# Altium integrated library Linear Technology Power Management LED Driver ICs.IntLib: 490 symbols (part 20 of 48)
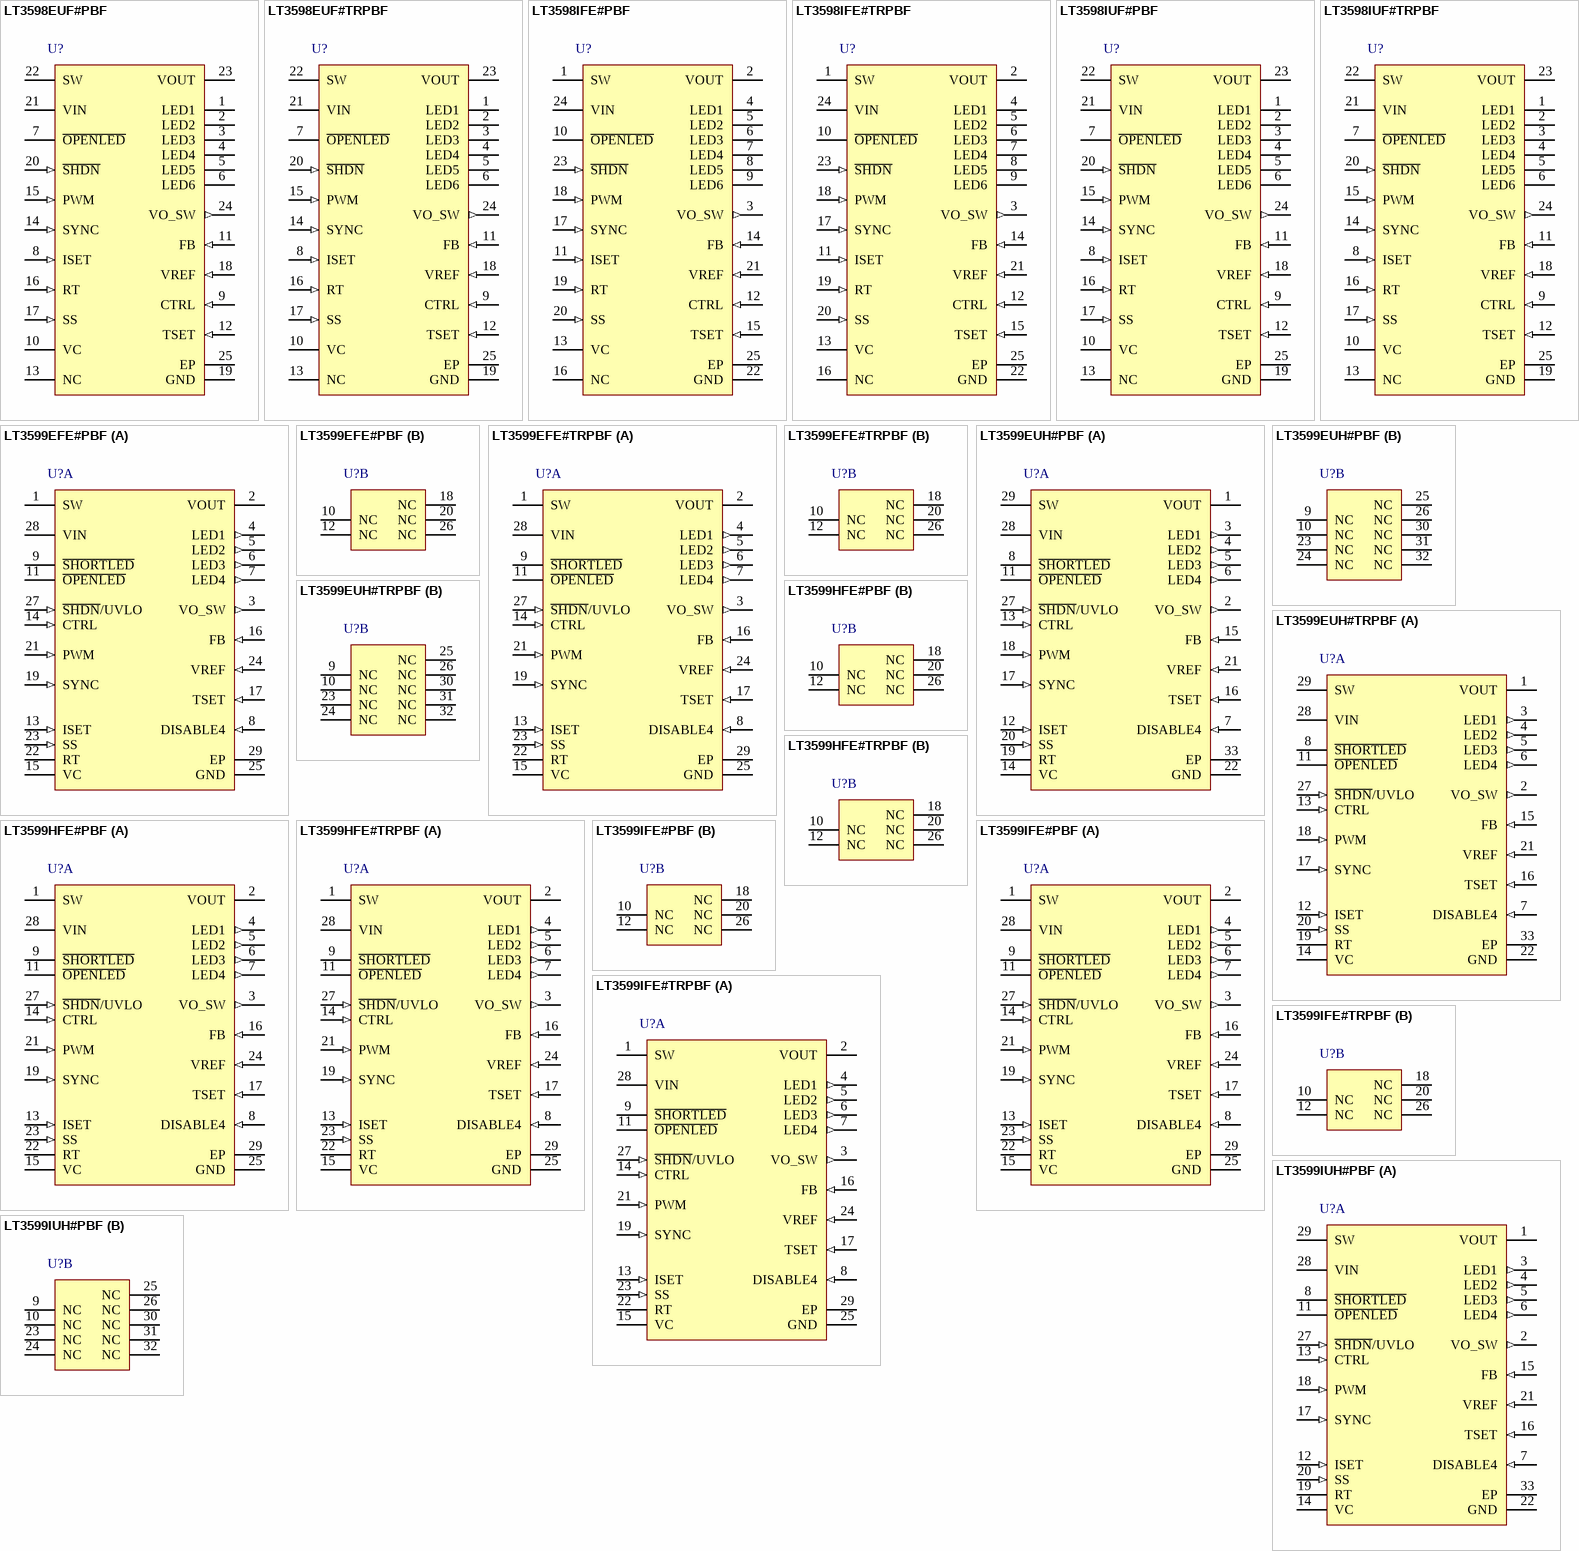
[diagram p39: symbols LT3598EUF#PBF to LT3599IUH#PBF]

## LT3599EUH#PBF
designator U?
4-Channel 100 mA LED Driver with 2% Current Matching, 3 to 30 V Vin, 44 V Vout MAX, 32-pin QFN (UH-32), -40 to 125 degC, Pb-Free; Manufacturer: Linear Technology; PartNumber: LT3599EUH#PBF; Topology: Boost, Sepic, LED Driver; Vin Min(V): 3; DatasheetVersion: Rev. E; PackageVersion: Rev. D, 06/2010; PackageReference: UH-32; PackageDescription: 32-Pin Plastic QFN, Body 5 x 5 mm, Pitch 0.5 mm; Supplier 1: Digi-Key; Supplier Part Number 1: LT3599EUH#PBF-ND; Supplier 2: Farnell; Supplier Part Number 2: 2294854; Supplier 3: Newark; Supplier Part Number 3: 51P4635; RoHS: TRUE; Mounting Technology: Surface Mount; Code_JEDEC: MO-220; ComponentLink1Description: Manufacturer URL; ComponentLink1URL: http://www.linear.com/; ComponentLink2Description: Datasheet; ComponentLink2URL: http://cds.linear.com/docs/en/datasheet/3599fe.pdf; ComponentLink3Description: Package Specification; ComponentLink3URL: http://cds.linear.com/docs/en/packaging/QFN_32_05-08-1693.pdf
footprint LT-UH-32_N (QFN, 32-Leads, Body 5.1x5.1mm, Pitch 0.5mm, Thermal Pad 3.45X3.45mm, IPC Medium Density)
footprint LT-UH-32_L (QFN, 32-Leads, Body 5.1x5.1mm, Pitch 0.5mm, Thermal Pad 3.45X3.45mm, IPC High Density)
footprint LT-UH-32_M (QFN, 32-Leads, Body 5.1x5.1mm, Pitch 0.5mm, Thermal Pad 3.45X3.45mm, IPC Low Density)
part A pins: 1 VOUT (power) "Output Pin. This pin provides power to all LEDs.", 2 VO_SW (out) "Drain of an Internal PMOS. The internal PMOS disconnects the feedback resistors from the V OUT pin during shutdown and when the PWM pin is low.", 3 LED1 (out) "LED String Output. Connect the bottom cathode of LED string to this pin.", 4 LED2 (out) "LED String Output. Connect the bottom cathode of LED string to this pin.", 5 LED3 (out) "LED String Output. Connect the bottom cathode of LED string to this pin.", 6 LED4 (out) "LED String Output. Connect the bottom cathode of LED string to this pin.", 7 DISABLE4 (in) "Allows Disabling Channel 4. Connect to V REF to disable channel 4. If channel 4 is disabled, the LED4 pin should be connected to the LED3 pin. Connect DISABLE4 to ground to allow operation of channel 4.", 8 ~{SHORTLED} (oc) "Indicates a high side short (LED pin shorted to V OUT ). This is an open-collector output.", 11 ~{OPENLED} (oc) "Open LED Flag. An open-collector output when any LED string open.", 12 ISET (in) "Programs Led Current for Each String. A resistor to ground programs LED currents between 30 mA and 120 mA.", 13 CTRL (in) "LED Current Control. If the CTRL pin is not used, tie this pin to V REF .", 14 VC "Error Amplifi er Output Pin. Tie the external compensation network to this pin.", 15 FB (in) "Feedback Pin for Overvoltage Protection. Reference voltage is 1.223 V. Connect the resistive divider tap here. Minimize trace area at FB. Set VOUT according to VOUT = 1.223(1 + R2/R1) when overvoltage protection occurs.", 16 TSET (in) "Programs LT3599 junction temperature breakpoint, beyond which LED currents will begin to decrease. An internal VPTAT threshold (see Block Diagram) increases with junction temperature. When VPTAT exceeds TSET pin voltage, LED (See Datasheet)", 17 SYNC (in) "Frequency Synchronization Pin. This input allows for synchronizing the operating frequency to an external clock. The R T resistor should be chosen to program a switching frequency 20% slower than SYNC pulse frequency. This (See Datasheet)", 18 PWM (in) "Input Pin for PWM Dimming Control. Above 1 V allows converter switching, and below 0.4 V disables switching with VC pin level maintained. A PWM signal driving the PWM pin provides accurate dimming control. The PWM signal can (See Datasheet)", 19 RT "A Resistor to Ground Which Programs Switching Frequency Between 200 kHz and 2.1 MHz. For SYNC function, choose the resistor to program a frequency 20% slower than the SYNC pulse frequency. Do not leave this pin open.", 20 SS (in) "Soft-Start Pin. Place a soft-start capacitor here. Upon start-up, a 11 uA current charges the capacitor. Use a larger capacitor for a slower start-up.", 21 VREF (in) "Bandgap Voltage Reference. Internally set to 1.227 V. This pin can supply up to 100 uA. Can be used to program the CTRL pin voltage using resistor dividers to ground.", 22 GND (power) "Analog Ground. Tie directly to local ground plane. Connect RT, ISET and TSET resistors between this local ground plane and their respective pins.", 27 ~{SHDN}/UVLO (in) "The S\H\D\N\/UVLO pin has an accurate 1.36 V threshold and can be used to program an undervoltage lockout (UVLO) threshold for system input supply using a resistor divider from supply to ground. A 4 uA pin current hysteresis (See Datasheet)", 28 VIN (power) "Input Supply Pin. Must be locally bypassed with a capacitor to ground.", 29 SW (power) "Switch Pin. This is the collector of the internal NPN power switch. Minimize the metal trace area connected to this pin to minimize EMI.", 33 EP (power) "Ground. The ground for the IC should be soldered to a continuous copper ground plane under the LT3599 die."
part B pins: 9 NC "No Connect Pin. Can be left open or connected to any ground plane.", 10 NC "No Connect Pin. Can be left open or connected to any ground plane.", 23 NC "No Connect Pin. Can be left open or connected to any ground plane.", 24 NC "No Connect Pin. Can be left open or connected to any ground plane.", 25 NC "No Connect Pin. Can be left open or connected to any ground plane.", 26 NC "No Connect Pin. Can be left open or connected to any ground plane.", 30 NC "No Connect Pin. Can be left open or connected to any ground plane.", 31 NC "No Connect Pin. Can be left open or connected to any ground plane.", 32 NC "No Connect Pin. Can be left open or connected to any ground plane."

## LT3599EUH#TRPBF
designator U?
4-Channel 100 mA LED Driver with 2% Current Matching, 3 to 30 V Vin, 44 V Vout MAX, 32-pin QFN (UH-32), -40 to 125 degC, Pb-Free, Tape and Reel; Manufacturer: Linear Technology; PartNumber: LT3599EUH#TRPBF; Topology: Boost, Sepic, LED Driver; Vin Min(V): 3; DatasheetVersion: Rev. E; PackageVersion: Rev. D, 06/2010; PackageReference: UH-32; PackageDescription: 32-Pin Plastic QFN, Body 5 x 5 mm, Pitch 0.5 mm; Supplier 1: Digi-Key; Supplier Part Number 1: LT3599EUH#TRPBF-ND; Packing: Tape and Reel; RoHS: TRUE; Mounting Technology: Surface Mount; Code_JEDEC: MO-220; ComponentLink1Description: Manufacturer URL; ComponentLink1URL: http://www.linear.com/; ComponentLink2Description: Datasheet; ComponentLink2URL: http://cds.linear.com/docs/en/datasheet/3599fe.pdf; ComponentLink3Description: Package Specification; ComponentLink3URL: http://cds.linear.com/docs/en/packaging/QFN_32_05-08-1693.pdf
footprint LT-UH-32_N (QFN, 32-Leads, Body 5.1x5.1mm, Pitch 0.5mm, Thermal Pad 3.45X3.45mm, IPC Medium Density)
footprint LT-UH-32_L (QFN, 32-Leads, Body 5.1x5.1mm, Pitch 0.5mm, Thermal Pad 3.45X3.45mm, IPC High Density)
footprint LT-UH-32_M (QFN, 32-Leads, Body 5.1x5.1mm, Pitch 0.5mm, Thermal Pad 3.45X3.45mm, IPC Low Density)
part A pins: 1 VOUT (power) "Output Pin. This pin provides power to all LEDs.", 2 VO_SW (out) "Drain of an Internal PMOS. The internal PMOS disconnects the feedback resistors from the V OUT pin during shutdown and when the PWM pin is low.", 3 LED1 (out) "LED String Output. Connect the bottom cathode of LED string to this pin.", 4 LED2 (out) "LED String Output. Connect the bottom cathode of LED string to this pin.", 5 LED3 (out) "LED String Output. Connect the bottom cathode of LED string to this pin.", 6 LED4 (out) "LED String Output. Connect the bottom cathode of LED string to this pin.", 7 DISABLE4 (in) "Allows Disabling Channel 4. Connect to V REF to disable channel 4. If channel 4 is disabled, the LED4 pin should be connected to the LED3 pin. Connect DISABLE4 to ground to allow operation of channel 4.", 8 ~{SHORTLED} (oc) "Indicates a high side short (LED pin shorted to V OUT ). This is an open-collector output.", 11 ~{OPENLED} (oc) "Open LED Flag. An open-collector output when any LED string open.", 12 ISET (in) "Programs Led Current for Each String. A resistor to ground programs LED currents between 30 mA and 120 mA.", 13 CTRL (in) "LED Current Control. If the CTRL pin is not used, tie this pin to V REF .", 14 VC "Error Amplifi er Output Pin. Tie the external compensation network to this pin.", 15 FB (in) "Feedback Pin for Overvoltage Protection. Reference voltage is 1.223 V. Connect the resistive divider tap here. Minimize trace area at FB. Set VOUT according to VOUT = 1.223(1 + R2/R1) when overvoltage protection occurs.", 16 TSET (in) "Programs LT3599 junction temperature breakpoint, beyond which LED currents will begin to decrease. An internal VPTAT threshold (see Block Diagram) increases with junction temperature. When VPTAT exceeds TSET pin voltage, LED (See Datasheet)", 17 SYNC (in) "Frequency Synchronization Pin. This input allows for synchronizing the operating frequency to an external clock. The R T resistor should be chosen to program a switching frequency 20% slower than SYNC pulse frequency. This (See Datasheet)", 18 PWM (in) "Input Pin for PWM Dimming Control. Above 1 V allows converter switching, and below 0.4 V disables switching with VC pin level maintained. A PWM signal driving the PWM pin provides accurate dimming control. The PWM signal can (See Datasheet)", 19 RT "A Resistor to Ground Which Programs Switching Frequency Between 200 kHz and 2.1 MHz. For SYNC function, choose the resistor to program a frequency 20% slower than the SYNC pulse frequency. Do not leave this pin open.", 20 SS (in) "Soft-Start Pin. Place a soft-start capacitor here. Upon start-up, a 11 uA current charges the capacitor. Use a larger capacitor for a slower start-up.", 21 VREF (in) "Bandgap Voltage Reference. Internally set to 1.227 V. This pin can supply up to 100 uA. Can be used to program the CTRL pin voltage using resistor dividers to ground.", 22 GND (power) "Analog Ground. Tie directly to local ground plane. Connect RT, ISET and TSET resistors between this local ground plane and their respective pins.", 27 ~{SHDN}/UVLO (in) "The S\H\D\N\/UVLO pin has an accurate 1.36 V threshold and can be used to program an undervoltage lockout (UVLO) threshold for system input supply using a resistor divider from supply to ground. A 4 uA pin current hysteresis (See Datasheet)", 28 VIN (power) "Input Supply Pin. Must be locally bypassed with a capacitor to ground.", 29 SW (power) "Switch Pin. This is the collector of the internal NPN power switch. Minimize the metal trace area connected to this pin to minimize EMI.", 33 EP (power) "Ground. The ground for the IC should be soldered to a continuous copper ground plane under the LT3599 die."
part B pins: 9 NC "No Connect Pin. Can be left open or connected to any ground plane.", 10 NC "No Connect Pin. Can be left open or connected to any ground plane.", 23 NC "No Connect Pin. Can be left open or connected to any ground plane.", 24 NC "No Connect Pin. Can be left open or connected to any ground plane.", 25 NC "No Connect Pin. Can be left open or connected to any ground plane.", 26 NC "No Connect Pin. Can be left open or connected to any ground plane.", 30 NC "No Connect Pin. Can be left open or connected to any ground plane.", 31 NC "No Connect Pin. Can be left open or connected to any ground plane.", 32 NC "No Connect Pin. Can be left open or connected to any ground plane."

## LT3599HFE#PBF
designator U?
4-Channel 100 mA LED Driver with 2% Current Matching, 3 to 30 V Vin, 44 V Vout MAX, 28-pin SOP (FE-28-EPV-EB), -40 to 150 degC, Pb-Free; Manufacturer: Linear Technology; PartNumber: LT3599HFE#PBF; Topology: Boost, Sepic, LED Driver; Vin Min(V): 3; DatasheetVersion: Rev. E; PackageVersion: Rev. J, 11/2012; PackageReference: FE-28; PackageDescription: 28-Pin Plastic TSSOP, Body 9.7 x 4.4 mm, Pitch 0.65 mm; Supplier 1: Digi-Key; Supplier Part Number 1: LT3599HFE#PBF-ND; Supplier 2: Newark; Supplier Part Number 2: 64R6827; RoHS: TRUE; Mounting Technology: Surface Mount; ComponentLink1Description: Manufacturer URL; ComponentLink1URL: http://www.linear.com/; ComponentLink2Description: Datasheet; ComponentLink2URL: http://cds.linear.com/docs/en/datasheet/3599fe.pdf; ComponentLink3Description: Package Specification; ComponentLink3URL: http://cds.linear.com/docs/en/packaging/05081663__J_FE28(EB).pdf
footprint LT-FE-28-EPV-EB_N (SOP, 28-Leads, Body 9.8x4.5mm, Pitch 0.65mm, Thermal Pad 4.75x2.74mm, IPC Medium Density)
footprint LT-FE-28-EPV-EB_L (SOP, 28-Leads, Body 9.8x4.5mm, Pitch 0.65mm, Thermal Pad 4.75x2.74mm, IPC High Density)
footprint LT-FE-28-EPV-EB_M (SOP, 28-Leads, Body 9.8x4.5mm, Pitch 0.65mm, Thermal Pad 4.75x2.74mm, IPC Low Density)
part A pins: 1 SW (power) "Switch Pin. This is the collector of the internal NPN power switch. Minimize the metal trace area connected to this pin to minimize EMI.", 2 VOUT (power) "Output Pin. This pin provides power to all LEDs.", 3 VO_SW (out) "Drain of an Internal PMOS. The internal PMOS disconnects the feedback resistors from the VOUT pin during shutdown and when the PWM pin is low.", 4 LED1 (out) "LED String Output. Connect the bottom cathode of each LED string to these pins.", 5 LED2 (out) "LED String Output. Connect the bottom cathode of each LED string to these pins.", 6 LED3 (out) "LED String Output. Connect the bottom cathode of each LED string to these pins.", 7 LED4 (out) "LED String Output. Connect the bottom cathode of each LED string to these pins.", 8 DISABLE4 (in) "Allows Disabling Channel 4. Connect to VREF to disable channel 4. If channel 4 is disabled, the LED4 pin should be connected to the LED3 pin. Connect DISABLE4 to ground to allow operation of channel 4.", 9 ~{SHORTLED} (oc) "Indicates a high side short (LED pin shorted to VOUT). This is an open-collector output.", 11 ~{OPENLED} (oc) "Open LED Flag. An open-collector output when any LED string opens.", 13 ISET (in) "Programs Led Current for Each String. A resistor to ground programs LED currents between 30mA and 120mA.", 14 CTRL (in) "LED Current Control. If the CTRL pin is not used, tie this pin to VREF.", 15 VC "Error Amplifier Output Pin. Tie the external compensation network to this pin.", 16 FB (in) "Feedback Pin for Overvoltage Protection. Reference voltage is 1.223V. Connect the resistive divider tap here. Minimize trace area at FB. Set VOUT according to VOUT = 1.223(1 + R2/R1) when overvoltage protection occurs.", 17 TSET (in) "Programs LT3599 junction temperature breakpoint, beyond which LED currents will begin to decrease. An internal VPTAT threshold (see Block Diagram) increases with junction temperature. When VPTAT exceeds TSET pin voltage, LED (See Datasheet)", 19 SYNC (in) "Frequency Synchronization Pin. This input allows for synchronizing the operating frequency to an external clock. The RT resistor should be chosen to program a switching frequency 20% slower than SYNC pulse frequency. This (See Datasheet)", 21 PWM (in) "Input Pin for PWM Dimming Control. Above 1V allows converter switching, and below 0.4V disables switching with VC pin level maintained. A PWM signal driving the PWM pin provides accurate dimming control. The PWM signal can (See Datasheet)", 22 RT "A Resistor to Ground Which Programs Switching Frequency Between 200kHz and 2.1MHz. For SYNC function, choose the resistor to program a frequency 20% slower than the SYNC pulse frequency. Do not leave this pin open.", 23 SS (in) "Soft-Start Pin. Place a soft-start capacitor here. Upon start-up, a 11uA current charges the capacitor. Use a larger capacitor for a slower start-up.", 24 VREF (in) "Bandgap Voltage Reference. Internally set to 1.227V. This pin can supply up to 100uA. Can be used to program the CTRL pin voltage using resistor dividers to ground.", 25 GND (power) "Analog Ground. Tie directly to local ground plane. Connect RT, ISET and TSET resistors between this local ground plane and their respective pins.", 27 ~{SHDN}/UVLO (in) "The S\H\D\N\/UVLO pin has an accurate 1.36V threshold and can be used to program an undervoltage lockout (UVLO) threshold for system input supply using a resistor divider from supply to ground. A 4uA pin current hysteresis (See Datasheet)", 28 VIN (power) "Input Supply Pin. Must be locally bypassed with a capacitor to ground.", 29 EP (power) "Ground. The ground for the IC should be soldered to a continuous copper ground plane under the LT3599 die."
part B pins: 10 NC "No Connect Pins. Can be left open or connected to any ground plane.", 12 NC "No Connect Pins. Can be left open or connected to any ground plane.", 18 NC "No Connect Pins. Can be left open or connected to any ground plane.", 20 NC "No Connect Pins. Can be left open or connected to any ground plane.", 26 NC "No Connect Pins. Can be left open or connected to any ground plane."

## LT3599HFE#TRPBF
designator U?
4-Channel 100 mA LED Driver with 2% Current Matching, 3 to 30 V Vin, 44 V Vout MAX, 28-pin SOP (FE-28-EPV-EB), -40 to 150 degC, Pb-Free, Tape and Reel; Manufacturer: Linear Technology; PartNumber: LT3599HFE#TRPBF; Topology: Boost, Sepic, LED Driver; Vin Min(V): 3; DatasheetVersion: Rev. E; PackageVersion: Rev. J, 11/2012; PackageReference: FE-28; PackageDescription: 28-Pin Plastic TSSOP, Body 9.7 x 4.4 mm, Pitch 0.65 mm; Supplier 1: Digi-Key; Supplier Part Number 1: LT3599HFE#TRPBF-ND; Packing: Tape and Reel; RoHS: TRUE; Mounting Technology: Surface Mount; ComponentLink1Description: Manufacturer URL; ComponentLink1URL: http://www.linear.com/; ComponentLink2Description: Datasheet; ComponentLink2URL: http://cds.linear.com/docs/en/datasheet/3599fe.pdf; ComponentLink3Description: Package Specification; ComponentLink3URL: http://cds.linear.com/docs/en/packaging/05081663__J_FE28(EB).pdf
footprint LT-FE-28-EPV-EB_N (SOP, 28-Leads, Body 9.8x4.5mm, Pitch 0.65mm, Thermal Pad 4.75x2.74mm, IPC Medium Density)
footprint LT-FE-28-EPV-EB_L (SOP, 28-Leads, Body 9.8x4.5mm, Pitch 0.65mm, Thermal Pad 4.75x2.74mm, IPC High Density)
footprint LT-FE-28-EPV-EB_M (SOP, 28-Leads, Body 9.8x4.5mm, Pitch 0.65mm, Thermal Pad 4.75x2.74mm, IPC Low Density)
part A pins: 1 SW (power) "Switch Pin. This is the collector of the internal NPN power switch. Minimize the metal trace area connected to this pin to minimize EMI.", 2 VOUT (power) "Output Pin. This pin provides power to all LEDs.", 3 VO_SW (out) "Drain of an Internal PMOS. The internal PMOS disconnects the feedback resistors from the VOUT pin during shutdown and when the PWM pin is low.", 4 LED1 (out) "LED String Output. Connect the bottom cathode of each LED string to these pins.", 5 LED2 (out) "LED String Output. Connect the bottom cathode of each LED string to these pins.", 6 LED3 (out) "LED String Output. Connect the bottom cathode of each LED string to these pins.", 7 LED4 (out) "LED String Output. Connect the bottom cathode of each LED string to these pins.", 8 DISABLE4 (in) "Allows Disabling Channel 4. Connect to VREF to disable channel 4. If channel 4 is disabled, the LED4 pin should be connected to the LED3 pin. Connect DISABLE4 to ground to allow operation of channel 4.", 9 ~{SHORTLED} (oc) "Indicates a high side short (LED pin shorted to VOUT). This is an open-collector output.", 11 ~{OPENLED} (oc) "Open LED Flag. An open-collector output when any LED string opens.", 13 ISET (in) "Programs Led Current for Each String. A resistor to ground programs LED currents between 30mA and 120mA.", 14 CTRL (in) "LED Current Control. If the CTRL pin is not used, tie this pin to VREF.", 15 VC "Error Amplifier Output Pin. Tie the external compensation network to this pin.", 16 FB (in) "Feedback Pin for Overvoltage Protection. Reference voltage is 1.223V. Connect the resistive divider tap here. Minimize trace area at FB. Set VOUT according to VOUT = 1.223(1 + R2/R1) when overvoltage protection occurs.", 17 TSET (in) "Programs LT3599 junction temperature breakpoint, beyond which LED currents will begin to decrease. An internal VPTAT threshold (see Block Diagram) increases with junction temperature. When VPTAT exceeds TSET pin voltage, LED (See Datasheet)", 19 SYNC (in) "Frequency Synchronization Pin. This input allows for synchronizing the operating frequency to an external clock. The RT resistor should be chosen to program a switching frequency 20% slower than SYNC pulse frequency. This (See Datasheet)", 21 PWM (in) "Input Pin for PWM Dimming Control. Above 1V allows converter switching, and below 0.4V disables switching with VC pin level maintained. A PWM signal driving the PWM pin provides accurate dimming control. The PWM signal can (See Datasheet)", 22 RT "A Resistor to Ground Which Programs Switching Frequency Between 200kHz and 2.1MHz. For SYNC function, choose the resistor to program a frequency 20% slower than the SYNC pulse frequency. Do not leave this pin open.", 23 SS (in) "Soft-Start Pin. Place a soft-start capacitor here. Upon start-up, a 11uA current charges the capacitor. Use a larger capacitor for a slower start-up.", 24 VREF (in) "Bandgap Voltage Reference. Internally set to 1.227V. This pin can supply up to 100uA. Can be used to program the CTRL pin voltage using resistor dividers to ground.", 25 GND (power) "Analog Ground. Tie directly to local ground plane. Connect RT, ISET and TSET resistors between this local ground plane and their respective pins.", 27 ~{SHDN}/UVLO (in) "The S\H\D\N\/UVLO pin has an accurate 1.36V threshold and can be used to program an undervoltage lockout (UVLO) threshold for system input supply using a resistor divider from supply to ground. A 4uA pin current hysteresis (See Datasheet)", 28 VIN (power) "Input Supply Pin. Must be locally bypassed with a capacitor to ground.", 29 EP (power) "Ground. The ground for the IC should be soldered to a continuous copper ground plane under the LT3599 die."
part B pins: 10 NC "No Connect Pins. Can be left open or connected to any ground plane.", 12 NC "No Connect Pins. Can be left open or connected to any ground plane.", 18 NC "No Connect Pins. Can be left open or connected to any ground plane.", 20 NC "No Connect Pins. Can be left open or connected to any ground plane.", 26 NC "No Connect Pins. Can be left open or connected to any ground plane."

## LT3599IFE#PBF
designator U?
4-Channel 100 mA LED Driver with 2% Current Matching, 3 to 30 V Vin, 44 V Vout MAX, 28-pin SOP (FE-28-EPV-EB), -40 to 125 degC, Pb-Free; Manufacturer: Linear Technology; PartNumber: LT3599IFE#PBF; Topology: Boost, Sepic, LED Driver; Vin Min(V): 3; DatasheetVersion: Rev. E; PackageVersion: Rev. J, 11/2012; PackageReference: FE-28; PackageDescription: 28-Pin Plastic TSSOP, Body 9.7 x 4.4 mm, Pitch 0.65 mm; Supplier 1: Digi-Key; Supplier Part Number 1: LT3599IFE#PBF-ND; Supplier 2: Newark; Supplier Part Number 2: 51P4637; RoHS: TRUE; Mounting Technology: Surface Mount; ComponentLink1Description: Manufacturer URL; ComponentLink1URL: http://www.linear.com/; ComponentLink2Description: Datasheet; ComponentLink2URL: http://cds.linear.com/docs/en/datasheet/3599fe.pdf; ComponentLink3Description: Package Specification; ComponentLink3URL: http://cds.linear.com/docs/en/packaging/05081663__J_FE28(EB).pdf
footprint LT-FE-28-EPV-EB_N (SOP, 28-Leads, Body 9.8x4.5mm, Pitch 0.65mm, Thermal Pad 4.75x2.74mm, IPC Medium Density)
footprint LT-FE-28-EPV-EB_L (SOP, 28-Leads, Body 9.8x4.5mm, Pitch 0.65mm, Thermal Pad 4.75x2.74mm, IPC High Density)
footprint LT-FE-28-EPV-EB_M (SOP, 28-Leads, Body 9.8x4.5mm, Pitch 0.65mm, Thermal Pad 4.75x2.74mm, IPC Low Density)
part A pins: 1 SW (power) "Switch Pin. This is the collector of the internal NPN power switch. Minimize the metal trace area connected to this pin to minimize EMI.", 2 VOUT (power) "Output Pin. This pin provides power to all LEDs.", 3 VO_SW (out) "Drain of an Internal PMOS. The internal PMOS disconnects the feedback resistors from the VOUT pin during shutdown and when the PWM pin is low.", 4 LED1 (out) "LED String Output. Connect the bottom cathode of each LED string to these pins.", 5 LED2 (out) "LED String Output. Connect the bottom cathode of each LED string to these pins.", 6 LED3 (out) "LED String Output. Connect the bottom cathode of each LED string to these pins.", 7 LED4 (out) "LED String Output. Connect the bottom cathode of each LED string to these pins.", 8 DISABLE4 (in) "Allows Disabling Channel 4. Connect to VREF to disable channel 4. If channel 4 is disabled, the LED4 pin should be connected to the LED3 pin. Connect DISABLE4 to ground to allow operation of channel 4.", 9 ~{SHORTLED} (oc) "Indicates a high side short (LED pin shorted to VOUT). This is an open-collector output.", 11 ~{OPENLED} (oc) "Open LED Flag. An open-collector output when any LED string opens.", 13 ISET (in) "Programs Led Current for Each String. A resistor to ground programs LED currents between 30mA and 120mA.", 14 CTRL (in) "LED Current Control. If the CTRL pin is not used, tie this pin to VREF.", 15 VC "Error Amplifier Output Pin. Tie the external compensation network to this pin.", 16 FB (in) "Feedback Pin for Overvoltage Protection. Reference voltage is 1.223V. Connect the resistive divider tap here. Minimize trace area at FB. Set VOUT according to VOUT = 1.223(1 + R2/R1) when overvoltage protection occurs.", 17 TSET (in) "Programs LT3599 junction temperature breakpoint, beyond which LED currents will begin to decrease. An internal VPTAT threshold (see Block Diagram) increases with junction temperature. When VPTAT exceeds TSET pin voltage, LED (See Datasheet)", 19 SYNC (in) "Frequency Synchronization Pin. This input allows for synchronizing the operating frequency to an external clock. The RT resistor should be chosen to program a switching frequency 20% slower than SYNC pulse frequency. This (See Datasheet)", 21 PWM (in) "Input Pin for PWM Dimming Control. Above 1V allows converter switching, and below 0.4V disables switching with VC pin level maintained. A PWM signal driving the PWM pin provides accurate dimming control. The PWM signal can (See Datasheet)", 22 RT "A Resistor to Ground Which Programs Switching Frequency Between 200kHz and 2.1MHz. For SYNC function, choose the resistor to program a frequency 20% slower than the SYNC pulse frequency. Do not leave this pin open.", 23 SS (in) "Soft-Start Pin. Place a soft-start capacitor here. Upon start-up, a 11uA current charges the capacitor. Use a larger capacitor for a slower start-up.", 24 VREF (in) "Bandgap Voltage Reference. Internally set to 1.227V. This pin can supply up to 100uA. Can be used to program the CTRL pin voltage using resistor dividers to ground.", 25 GND (power) "Analog Ground. Tie directly to local ground plane. Connect RT, ISET and TSET resistors between this local ground plane and their respective pins.", 27 ~{SHDN}/UVLO (in) "The S\H\D\N\/UVLO pin has an accurate 1.36V threshold and can be used to program an undervoltage lockout (UVLO) threshold for system input supply using a resistor divider from supply to ground. A 4uA pin current hysteresis (See Datasheet)", 28 VIN (power) "Input Supply Pin. Must be locally bypassed with a capacitor to ground.", 29 EP (power) "Ground. The ground for the IC should be soldered to a continuous copper ground plane under the LT3599 die."
part B pins: 10 NC "No Connect Pins. Can be left open or connected to any ground plane.", 12 NC "No Connect Pins. Can be left open or connected to any ground plane.", 18 NC "No Connect Pins. Can be left open or connected to any ground plane.", 20 NC "No Connect Pins. Can be left open or connected to any ground plane.", 26 NC "No Connect Pins. Can be left open or connected to any ground plane."

## LT3599IFE#TRPBF
designator U?
4-Channel 100 mA LED Driver with 2% Current Matching, 3 to 30 V Vin, 44 V Vout MAX, 28-pin SOP (FE-28-EPV-EB), -40 to 125 degC, Pb-Free, Tape and Reel; Manufacturer: Linear Technology; PartNumber: LT3599IFE#TRPBF; Topology: Boost, Sepic, LED Driver; Vin Min(V): 3; DatasheetVersion: Rev. E; PackageVersion: Rev. J, 11/2012; PackageReference: FE-28; PackageDescription: 28-Pin Plastic TSSOP, Body 9.7 x 4.4 mm, Pitch 0.65 mm; Supplier 1: Digi-Key; Supplier Part Number 1: LT3599IFE#TRPBF-ND; Packing: Tape and Reel; RoHS: TRUE; Mounting Technology: Surface Mount; ComponentLink1Description: Manufacturer URL; ComponentLink1URL: http://www.linear.com/; ComponentLink2Description: Datasheet; ComponentLink2URL: http://cds.linear.com/docs/en/datasheet/3599fe.pdf; ComponentLink3Description: Package Specification; ComponentLink3URL: http://cds.linear.com/docs/en/packaging/05081663__J_FE28(EB).pdf
footprint LT-FE-28-EPV-EB_N (SOP, 28-Leads, Body 9.8x4.5mm, Pitch 0.65mm, Thermal Pad 4.75x2.74mm, IPC Medium Density)
footprint LT-FE-28-EPV-EB_L (SOP, 28-Leads, Body 9.8x4.5mm, Pitch 0.65mm, Thermal Pad 4.75x2.74mm, IPC High Density)
footprint LT-FE-28-EPV-EB_M (SOP, 28-Leads, Body 9.8x4.5mm, Pitch 0.65mm, Thermal Pad 4.75x2.74mm, IPC Low Density)
part A pins: 1 SW (power) "Switch Pin. This is the collector of the internal NPN power switch. Minimize the metal trace area connected to this pin to minimize EMI.", 2 VOUT (power) "Output Pin. This pin provides power to all LEDs.", 3 VO_SW (out) "Drain of an Internal PMOS. The internal PMOS disconnects the feedback resistors from the VOUT pin during shutdown and when the PWM pin is low.", 4 LED1 (out) "LED String Output. Connect the bottom cathode of each LED string to these pins.", 5 LED2 (out) "LED String Output. Connect the bottom cathode of each LED string to these pins.", 6 LED3 (out) "LED String Output. Connect the bottom cathode of each LED string to these pins.", 7 LED4 (out) "LED String Output. Connect the bottom cathode of each LED string to these pins.", 8 DISABLE4 (in) "Allows Disabling Channel 4. Connect to VREF to disable channel 4. If channel 4 is disabled, the LED4 pin should be connected to the LED3 pin. Connect DISABLE4 to ground to allow operation of channel 4.", 9 ~{SHORTLED} (oc) "Indicates a high side short (LED pin shorted to VOUT). This is an open-collector output.", 11 ~{OPENLED} (oc) "Open LED Flag. An open-collector output when any LED string opens.", 13 ISET (in) "Programs Led Current for Each String. A resistor to ground programs LED currents between 30mA and 120mA.", 14 CTRL (in) "LED Current Control. If the CTRL pin is not used, tie this pin to VREF.", 15 VC "Error Amplifier Output Pin. Tie the external compensation network to this pin.", 16 FB (in) "Feedback Pin for Overvoltage Protection. Reference voltage is 1.223V. Connect the resistive divider tap here. Minimize trace area at FB. Set VOUT according to VOUT = 1.223(1 + R2/R1) when overvoltage protection occurs.", 17 TSET (in) "Programs LT3599 junction temperature breakpoint, beyond which LED currents will begin to decrease. An internal VPTAT threshold (see Block Diagram) increases with junction temperature. When VPTAT exceeds TSET pin voltage, LED (See Datasheet)", 19 SYNC (in) "Frequency Synchronization Pin. This input allows for synchronizing the operating frequency to an external clock. The RT resistor should be chosen to program a switching frequency 20% slower than SYNC pulse frequency. This (See Datasheet)", 21 PWM (in) "Input Pin for PWM Dimming Control. Above 1V allows converter switching, and below 0.4V disables switching with VC pin level maintained. A PWM signal driving the PWM pin provides accurate dimming control. The PWM signal can (See Datasheet)", 22 RT "A Resistor to Ground Which Programs Switching Frequency Between 200kHz and 2.1MHz. For SYNC function, choose the resistor to program a frequency 20% slower than the SYNC pulse frequency. Do not leave this pin open.", 23 SS (in) "Soft-Start Pin. Place a soft-start capacitor here. Upon start-up, a 11uA current charges the capacitor. Use a larger capacitor for a slower start-up.", 24 VREF (in) "Bandgap Voltage Reference. Internally set to 1.227V. This pin can supply up to 100uA. Can be used to program the CTRL pin voltage using resistor dividers to ground.", 25 GND (power) "Analog Ground. Tie directly to local ground plane. Connect RT, ISET and TSET resistors between this local ground plane and their respective pins.", 27 ~{SHDN}/UVLO (in) "The S\H\D\N\/UVLO pin has an accurate 1.36V threshold and can be used to program an undervoltage lockout (UVLO) threshold for system input supply using a resistor divider from supply to ground. A 4uA pin current hysteresis (See Datasheet)", 28 VIN (power) "Input Supply Pin. Must be locally bypassed with a capacitor to ground.", 29 EP (power) "Ground. The ground for the IC should be soldered to a continuous copper ground plane under the LT3599 die."
part B pins: 10 NC "No Connect Pins. Can be left open or connected to any ground plane.", 12 NC "No Connect Pins. Can be left open or connected to any ground plane.", 18 NC "No Connect Pins. Can be left open or connected to any ground plane.", 20 NC "No Connect Pins. Can be left open or connected to any ground plane.", 26 NC "No Connect Pins. Can be left open or connected to any ground plane."

## LT3599IUH#PBF
designator U?
4-Channel 100 mA LED Driver with 2% Current Matching, 3 to 30 V Vin, 44 V Vout MAX, 32-pin QFN (UH-32), -40 to 125 degC, Pb-Free; Manufacturer: Linear Technology; PartNumber: LT3599IUH#PBF; Topology: Boost, Sepic, LED Driver; Vin Min(V): 3; DatasheetVersion: Rev. E; PackageVersion: Rev. D, 06/2010; PackageReference: UH-32; PackageDescription: 32-Pin Plastic QFN, Body 5 x 5 mm, Pitch 0.5 mm; Supplier 1: Digi-Key; Supplier Part Number 1: LT3599IUH#PBF-ND; Supplier 2: Farnell; Supplier Part Number 2: 2294855; Supplier 3: Newark; Supplier Part Number 3: 71P8124; RoHS: TRUE; Mounting Technology: Surface Mount; Code_JEDEC: MO-220; ComponentLink1Description: Manufacturer URL; ComponentLink1URL: http://www.linear.com/; ComponentLink2Description: Datasheet; ComponentLink2URL: http://cds.linear.com/docs/en/datasheet/3599fe.pdf; ComponentLink3Description: Package Specification; ComponentLink3URL: http://cds.linear.com/docs/en/packaging/QFN_32_05-08-1693.pdf
footprint LT-UH-32_N (QFN, 32-Leads, Body 5.1x5.1mm, Pitch 0.5mm, Thermal Pad 3.45X3.45mm, IPC Medium Density)
footprint LT-UH-32_L (QFN, 32-Leads, Body 5.1x5.1mm, Pitch 0.5mm, Thermal Pad 3.45X3.45mm, IPC High Density)
footprint LT-UH-32_M (QFN, 32-Leads, Body 5.1x5.1mm, Pitch 0.5mm, Thermal Pad 3.45X3.45mm, IPC Low Density)
part A pins: 1 VOUT (power) "Output Pin. This pin provides power to all LEDs.", 2 VO_SW (out) "Drain of an Internal PMOS. The internal PMOS disconnects the feedback resistors from the V OUT pin during shutdown and when the PWM pin is low.", 3 LED1 (out) "LED String Output. Connect the bottom cathode of LED string to this pin.", 4 LED2 (out) "LED String Output. Connect the bottom cathode of LED string to this pin.", 5 LED3 (out) "LED String Output. Connect the bottom cathode of LED string to this pin.", 6 LED4 (out) "LED String Output. Connect the bottom cathode of LED string to this pin.", 7 DISABLE4 (in) "Allows Disabling Channel 4. Connect to V REF to disable channel 4. If channel 4 is disabled, the LED4 pin should be connected to the LED3 pin. Connect DISABLE4 to ground to allow operation of channel 4.", 8 ~{SHORTLED} (oc) "Indicates a high side short (LED pin shorted to V OUT ). This is an open-collector output.", 11 ~{OPENLED} (oc) "Open LED Flag. An open-collector output when any LED string open.", 12 ISET (in) "Programs Led Current for Each String. A resistor to ground programs LED currents between 30 mA and 120 mA.", 13 CTRL (in) "LED Current Control. If the CTRL pin is not used, tie this pin to V REF .", 14 VC "Error Amplifi er Output Pin. Tie the external compensation network to this pin.", 15 FB (in) "Feedback Pin for Overvoltage Protection. Reference voltage is 1.223 V. Connect the resistive divider tap here. Minimize trace area at FB. Set VOUT according to VOUT = 1.223(1 + R2/R1) when overvoltage protection occurs.", 16 TSET (in) "Programs LT3599 junction temperature breakpoint, beyond which LED currents will begin to decrease. An internal VPTAT threshold (see Block Diagram) increases with junction temperature. When VPTAT exceeds TSET pin voltage, LED (See Datasheet)", 17 SYNC (in) "Frequency Synchronization Pin. This input allows for synchronizing the operating frequency to an external clock. The R T resistor should be chosen to program a switching frequency 20% slower than SYNC pulse frequency. This (See Datasheet)", 18 PWM (in) "Input Pin for PWM Dimming Control. Above 1 V allows converter switching, and below 0.4 V disables switching with VC pin level maintained. A PWM signal driving the PWM pin provides accurate dimming control. The PWM signal can (See Datasheet)", 19 RT "A Resistor to Ground Which Programs Switching Frequency Between 200 kHz and 2.1 MHz. For SYNC function, choose the resistor to program a frequency 20% slower than the SYNC pulse frequency. Do not leave this pin open.", 20 SS (in) "Soft-Start Pin. Place a soft-start capacitor here. Upon start-up, a 11 uA current charges the capacitor. Use a larger capacitor for a slower start-up.", 21 VREF (in) "Bandgap Voltage Reference. Internally set to 1.227 V. This pin can supply up to 100 uA. Can be used to program the CTRL pin voltage using resistor dividers to ground.", 22 GND (power) "Analog Ground. Tie directly to local ground plane. Connect RT, ISET and TSET resistors between this local ground plane and their respective pins.", 27 ~{SHDN}/UVLO (in) "The S\H\D\N\/UVLO pin has an accurate 1.36 V threshold and can be used to program an undervoltage lockout (UVLO) threshold for system input supply using a resistor divider from supply to ground. A 4 uA pin current hysteresis (See Datasheet)", 28 VIN (power) "Input Supply Pin. Must be locally bypassed with a capacitor to ground.", 29 SW (power) "Switch Pin. This is the collector of the internal NPN power switch. Minimize the metal trace area connected to this pin to minimize EMI.", 33 EP (power) "Ground. The ground for the IC should be soldered to a continuous copper ground plane under the LT3599 die."
part B pins: 9 NC "No Connect Pin. Can be left open or connected to any ground plane.", 10 NC "No Connect Pin. Can be left open or connected to any ground plane.", 23 NC "No Connect Pin. Can be left open or connected to any ground plane.", 24 NC "No Connect Pin. Can be left open or connected to any ground plane.", 25 NC "No Connect Pin. Can be left open or connected to any ground plane.", 26 NC "No Connect Pin. Can be left open or connected to any ground plane.", 30 NC "No Connect Pin. Can be left open or connected to any ground plane.", 31 NC "No Connect Pin. Can be left open or connected to any ground plane.", 32 NC "No Connect Pin. Can be left open or connected to any ground plane."

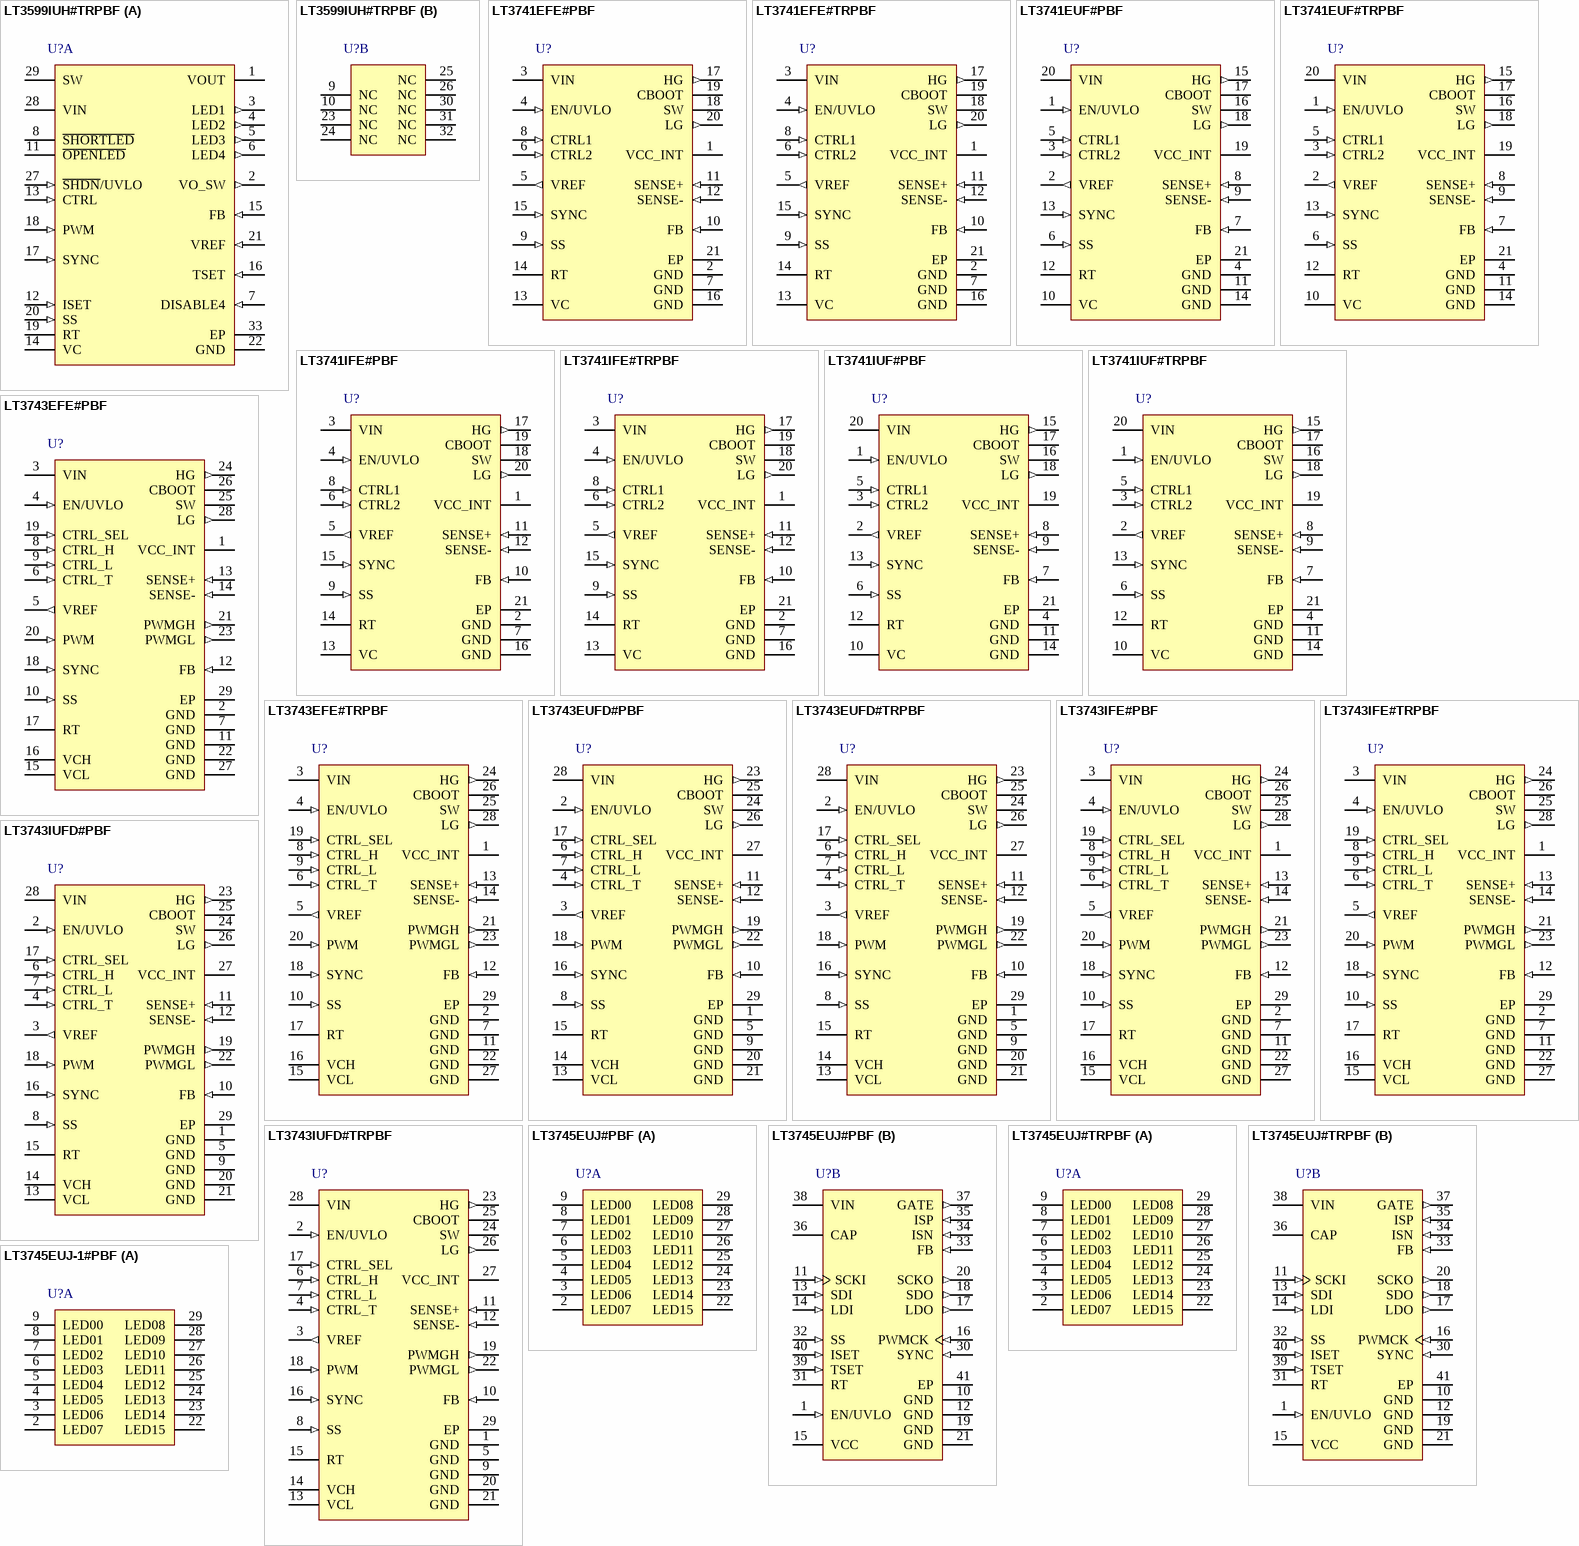
[diagram p9: symbols LT3599IUH#TRPBF to LT3745EUJ-1#PBF]

## LT3599IUH#TRPBF
designator U?
4-Channel 100 mA LED Driver with 2% Current Matching, 3 to 30 V Vin, 44 V Vout MAX, 32-pin QFN (UH-32), -40 to 125 degC, Pb-Free, Tape and Reel; Manufacturer: Linear Technology; PartNumber: LT3599IUH#TRPBF; Topology: Boost, Sepic, LED Driver; Vin Min(V): 3; DatasheetVersion: Rev. E; PackageVersion: Rev. D, 06/2010; PackageReference: UH-32; PackageDescription: 32-Pin Plastic QFN, Body 5 x 5 mm, Pitch 0.5 mm; Supplier 1: Digi-Key; Supplier Part Number 1: LT3599IUH#TRPBF-ND; Packing: Tape and Reel; RoHS: TRUE; Mounting Technology: Surface Mount; Code_JEDEC: MO-220; ComponentLink1Description: Manufacturer URL; ComponentLink1URL: http://www.linear.com/; ComponentLink2Description: Datasheet; ComponentLink2URL: http://cds.linear.com/docs/en/datasheet/3599fe.pdf; ComponentLink3Description: Package Specification; ComponentLink3URL: http://cds.linear.com/docs/en/packaging/QFN_32_05-08-1693.pdf
footprint LT-UH-32_N (QFN, 32-Leads, Body 5.1x5.1mm, Pitch 0.5mm, Thermal Pad 3.45X3.45mm, IPC Medium Density)
footprint LT-UH-32_L (QFN, 32-Leads, Body 5.1x5.1mm, Pitch 0.5mm, Thermal Pad 3.45X3.45mm, IPC High Density)
footprint LT-UH-32_M (QFN, 32-Leads, Body 5.1x5.1mm, Pitch 0.5mm, Thermal Pad 3.45X3.45mm, IPC Low Density)
part A pins: 1 VOUT (power) "Output Pin. This pin provides power to all LEDs.", 2 VO_SW (out) "Drain of an Internal PMOS. The internal PMOS disconnects the feedback resistors from the V OUT pin during shutdown and when the PWM pin is low.", 3 LED1 (out) "LED String Output. Connect the bottom cathode of LED string to this pin.", 4 LED2 (out) "LED String Output. Connect the bottom cathode of LED string to this pin.", 5 LED3 (out) "LED String Output. Connect the bottom cathode of LED string to this pin.", 6 LED4 (out) "LED String Output. Connect the bottom cathode of LED string to this pin.", 7 DISABLE4 (in) "Allows Disabling Channel 4. Connect to V REF to disable channel 4. If channel 4 is disabled, the LED4 pin should be connected to the LED3 pin. Connect DISABLE4 to ground to allow operation of channel 4.", 8 ~{SHORTLED} (oc) "Indicates a high side short (LED pin shorted to V OUT ). This is an open-collector output.", 11 ~{OPENLED} (oc) "Open LED Flag. An open-collector output when any LED string open.", 12 ISET (in) "Programs Led Current for Each String. A resistor to ground programs LED currents between 30 mA and 120 mA.", 13 CTRL (in) "LED Current Control. If the CTRL pin is not used, tie this pin to V REF .", 14 VC "Error Amplifi er Output Pin. Tie the external compensation network to this pin.", 15 FB (in) "Feedback Pin for Overvoltage Protection. Reference voltage is 1.223 V. Connect the resistive divider tap here. Minimize trace area at FB. Set VOUT according to VOUT = 1.223(1 + R2/R1) when overvoltage protection occurs.", 16 TSET (in) "Programs LT3599 junction temperature breakpoint, beyond which LED currents will begin to decrease. An internal VPTAT threshold (see Block Diagram) increases with junction temperature. When VPTAT exceeds TSET pin voltage, LED (See Datasheet)", 17 SYNC (in) "Frequency Synchronization Pin. This input allows for synchronizing the operating frequency to an external clock. The R T resistor should be chosen to program a switching frequency 20% slower than SYNC pulse frequency. This (See Datasheet)", 18 PWM (in) "Input Pin for PWM Dimming Control. Above 1 V allows converter switching, and below 0.4 V disables switching with VC pin level maintained. A PWM signal driving the PWM pin provides accurate dimming control. The PWM signal can (See Datasheet)", 19 RT "A Resistor to Ground Which Programs Switching Frequency Between 200 kHz and 2.1 MHz. For SYNC function, choose the resistor to program a frequency 20% slower than the SYNC pulse frequency. Do not leave this pin open.", 20 SS (in) "Soft-Start Pin. Place a soft-start capacitor here. Upon start-up, a 11 uA current charges the capacitor. Use a larger capacitor for a slower start-up.", 21 VREF (in) "Bandgap Voltage Reference. Internally set to 1.227 V. This pin can supply up to 100 uA. Can be used to program the CTRL pin voltage using resistor dividers to ground.", 22 GND (power) "Analog Ground. Tie directly to local ground plane. Connect RT, ISET and TSET resistors between this local ground plane and their respective pins.", 27 ~{SHDN}/UVLO (in) "The S\H\D\N\/UVLO pin has an accurate 1.36 V threshold and can be used to program an undervoltage lockout (UVLO) threshold for system input supply using a resistor divider from supply to ground. A 4 uA pin current hysteresis (See Datasheet)", 28 VIN (power) "Input Supply Pin. Must be locally bypassed with a capacitor to ground.", 29 SW (power) "Switch Pin. This is the collector of the internal NPN power switch. Minimize the metal trace area connected to this pin to minimize EMI.", 33 EP (power) "Ground. The ground for the IC should be soldered to a continuous copper ground plane under the LT3599 die."
part B pins: 9 NC "No Connect Pin. Can be left open or connected to any ground plane.", 10 NC "No Connect Pin. Can be left open or connected to any ground plane.", 23 NC "No Connect Pin. Can be left open or connected to any ground plane.", 24 NC "No Connect Pin. Can be left open or connected to any ground plane.", 25 NC "No Connect Pin. Can be left open or connected to any ground plane.", 26 NC "No Connect Pin. Can be left open or connected to any ground plane.", 30 NC "No Connect Pin. Can be left open or connected to any ground plane.", 31 NC "No Connect Pin. Can be left open or connected to any ground plane.", 32 NC "No Connect Pin. Can be left open or connected to any ground plane."

## LT3741EFE#PBF
designator U?
High Power, Constant Current, Constant Voltage Step-Down Controller, 6 to 36 V Vin, 20-pin SOP (FE-20-EPV-CB), -40 to 85 degC, Pb-Free; Manufacturer: Linear Technology; PartNumber: LT3741EFE#PBF; Topology: Buck; Vin Min(V): 6; DatasheetVersion: Rev. C; PackageVersion: Rev. I, 05/2011; PackageReference: FE-20; PackageDescription: 20-Pin Plastic TSSOP, Body 6.5 x 4.4 mm, Pitch 0.65 mm; Supplier 1: Digi-Key; Supplier Part Number 1: LT3741EFE#PBF-ND; Supplier 2: Newark; Supplier Part Number 2: 64R6829; RoHS: TRUE; Mounting Technology: Surface Mount; ComponentLink1Description: Manufacturer URL; ComponentLink1URL: http://www.linear.com/; ComponentLink2Description: Datasheet; ComponentLink2URL: http://cds.linear.com/docs/en/datasheet/37411fc.pdf; ComponentLink3Description: Package Specification; ComponentLink3URL: http://cds.linear.com/docs/en/packaging/05081663__J_FE20(CB).pdf
footprint LT-FE-20-EPV-CB_N (SOP, 20-Leads, Body 6.6x4.5mm, Pitch 0.65mm, Thermal Pad 3.86x2.74mm, IPC Medium Density)
footprint LT-FE-20-EPV-CB_L (SOP, 20-Leads, Body 6.6x4.5mm, Pitch 0.65mm, Thermal Pad 3.86x2.74mm, IPC High Density)
footprint LT-FE-20-EPV-CB_M (SOP, 20-Leads, Body 6.6x4.5mm, Pitch 0.65mm, Thermal Pad 3.86x2.74mm, IPC Low Density)
pins: 1 VCC_INT (power) "A regulated 5V output for charging the CBOOT capacitor. VCC_INT also provides the power for the digital and switching subcircuits. Below 6V VIN, tie this pin to the rail. VCC_INT is current limited to 50mA. Shutdown (See Datasheet)", 2 GND (power) "Ground. The exposed pad must be soldered to the PCB", 3 VIN (power) "Input Supply Pin. Must be locally bypassed with a 4.7uF low-ESR capacitor to ground.", 4 EN/UVLO (in) "Enable Pin. The EN/UVLO pin acts as an enable pin and turns on the internal current bias core and subregulators at 1.55V. The pin doesnot have any pull-up or pull-down, requiring a voltage bias for normal part operation. (See Datasheet)", 5 VREF (out) "Buffered 2V reference capable of 0.5mA drive.", 6 CTRL2 (in) "Thermal control input used to reduce the regulated current level.", 7 GND (power) "Ground. The exposed pad must be soldered to the PCB", 8 CTRL1 (in) "The CTRL1 pin sets the high level regulated output current and overcurrent. The maximum input voltage is internally clamped to 1.5V. The overcurrent set point is equal to the high level regulated current level set by the (See Datasheet)", 9 SS (in) "The Soft-Start Pin. Place an external capacitor to ground to limit the regulated current during start-up conditions. The soft-start pin has a 11uA charging current. This pin controls regulated output current determined by (See Datasheet)", 10 FB (in) "Feedback Pin for Voltage Regulation and Overvoltage Protection. The feedback voltage is 1.21V. Overvoltage is also sensed through the FB pin. When the feedback voltage exceeds 1.5V, the overvoltage lockout prevents switching (See Datasheet)", 11 SENSE+ (in) "SENSE+ is the inverting input of the average current mode loop error amplifier. This pin is connected to the external current sense resistor, RS. The voltage drop between SENSE+ and SENSE- referenced to the voltage drop (See Datasheet)", 12 SENSE- (in) "SENSE- is the non-inverting input of the average current mode loop error amplifier. The reference current, based on CTRL1 or CTRL2 flows out of the pin to the output side of the sense resistor, RS.", 13 VC "VC provides the necessary compensation for the average current loop stability. Typical compensation values are 20k to 50k for the resistor and 2nF to 5nF for the capacitor.", 14 RT "A resistor to ground sets the switching frequency between 200kHz and 1MHz. When using the SYNC function, set the frequency to be 20% lower than the SYNC pulse frequency. This pin is current limited to 60uA. Do not leave this (See Datasheet)", 15 SYNC (in) "Frequency Synchronization Pin. This pin allows the switching frequency to be synchronized to an external clock. The RT resistor should be chosen to operate the internal clock at 20% slower than the SYNC pulse frequency. This (See Datasheet)", 16 GND (power) "Ground. The exposed pad must be soldered to the PCB", 17 HG (out) "HG is the top-FET gate drive signal that controls the state of the high-side external power FET. The driver pull-up impedance is 2.3ohm and pull-down impedance is 1.3ohm.", 18 SW "The SW pin is used internally as the lower-rail for the floating high-side driver. Externally, this node connects the two power-FETs and the inductor.", 19 CBOOT "The CBOOT pin provides a floating 5V regulated supply for the high-side FET driver. An external Schottky diode is required from the VCC_INT pin to the CBOOT pin to charge the CBOOT capacitor when the switch-pin is near (See Datasheet)", 20 LG (out) "LG is the bottom-FET gate drive signal that controls the state of the low-side external power-FET. The driver pull-up impedance is 2.3ohm and pull-down impedance is 1.0ohm.", 21 EP (power) "Ground. The exposed pad must be soldered to the PCB"